# Altium footprint library LFCSP48.PcbLib: 1 footprints
Each footprint in its own frame and in the unit in brackets; x right, y up, seen from the top. Pads: shape width x height; smd on the part's side, far side on the other; paste and mask are expansions set on the pad; w line width, h text height; cw(c..) or ccw(c..) is an arc to the next point about the centre after c.
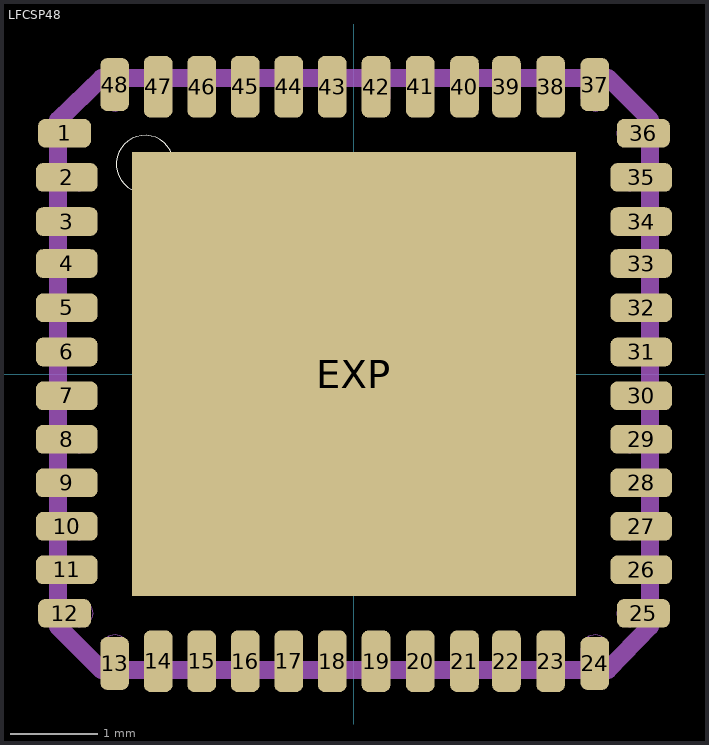
[diagram p0: the footprint, top view; thin cyan lines are the x and y axes]

## LFCSP48 [mil]
pads (49):
  rrect50% 24x13 smd: 1(-130.91,109) 12(-130.91,-108.27) 25(131,-108.27) 36(131,109)
  rrect50% 28x13 smd: 2(-129.92,89) 3(-129.92,69) 4(-129.92,50) 5(-129.92,30) 6(-129.92,10) 7(-129.92,-9.84) 8(-129.92,-29.53) 9(-129.92,-49.21) 10(-129.92,-68.9) 11(-129.92,-88.58) 26(130,-88.58) 27(130,-68.9) 28(130,-49.21) 29(130,-29.53) 30(130,-9.84) 31(130,10) 32(130,30) 33(130,50) 34(130,69) 35(130,89)
  rrect50% 13x24 smd: 13(-108.27,-130.91) 24(109,-130.91) 37(109,131) 48(-108.27,131)
  rrect50% 13x28 smd: 14(-88.58,-129.92) 15(-68.9,-129.92) 16(-49.21,-129.92) 17(-29.53,-129.92) 18(-9.84,-129.92) 19(10,-129.92) 20(30,-129.92) 21(50,-129.92) 22(69,-129.92) 23(89,-129.92) 38(89,130) 39(69,130) 40(50,130) 41(30,130) 42(10,130) 43(-9.84,130) 44(-29.53,130) 45(-49.21,130) 46(-68.9,130) 47(-88.58,130)
  rect 201x201 smd: EXP(0,0)
Top Overlay:
  circle w0: c-94.49,95 r13
Top Paste:
  rectangle: -98.43,-98.43 99,99
  lines w12: -137.8,-88.58 -122.05,-88.58 ; -137.8,-68.9 -122.05,-68.9 ; -137.8,-49.21 -122.05,-49.21 ; -137.8,-29.53 -122.05,-29.53 ; -137.8,-9.84 -122.05,-9.84 ; -137.8,10 -122.05,10 ; -137.8,30 -122.05,30 ; -137.8,50 -122.05,50 ; -137.8,69 -122.05,69 ; -137.8,89 -122.05,89 ; -136.81,-108.27 -125,-108.27 ; -136.81,109 -125,109 ; -108.27,-136.81 -108.27,-125 ; -108.27,125 -108.27,137 ; -88.58,-137.8 -88.58,-122.05 ; -88.58,123 -88.58,138 ; -68.9,-137.8 -68.9,-122.05 ; -68.9,123 -68.9,138 ; -49.21,-137.8 -49.21,-122.05 ; -49.21,123 -49.21,138 ; -29.53,-137.8 -29.53,-122.05 ; -29.53,123 -29.53,138 ; -9.84,-137.8 -9.84,-122.05 ; -9.84,123 -9.84,138 ; 10,-137.8 10,-122.05 ; 10,123 10,138 ; 30,-137.8 30,-122.05 ; 30,123 30,138 ; 50,-137.8 50,-122.05 ; 50,123 50,138 ; 69,-137.8 69,-122.05 ; 69,123 69,138 ; 89,-137.8 89,-122.05 ; 89,123 89,138 ; 109,-136.81 109,-125 ; 109,125 109,137 ; 123,-88.58 138,-88.58 ; 123,-68.9 138,-68.9 ; 123,-49.21 138,-49.21 ; 123,-29.53 138,-29.53 ; 123,-9.84 138,-9.84 ; 123,10 138,10 ; 123,30 138,30 ; 123,50 138,50 ; 123,69 138,69 ; 123,89 138,89 ; 125,-108.27 137,-108.27 ; 125,109 137,109
Top Solder:
  rectangle: -102.36,-102.36 103,103
  lines w16: -137.8,-88.58 -122.05,-88.58 ; -137.8,-68.9 -122.05,-68.9 ; -137.8,-49.21 -122.05,-49.21 ; -137.8,-29.53 -122.05,-29.53 ; -137.8,-9.84 -122.05,-9.84 ; -137.8,10 -122.05,10 ; -137.8,30 -122.05,30 ; -137.8,50 -122.05,50 ; -137.8,69 -122.05,69 ; -137.8,89 -122.05,89 ; -136.81,-108.27 -125,-108.27 ; -136.81,109 -125,109 ; -108.27,-136.81 -108.27,-125 ; -108.27,125 -108.27,137 ; -88.58,-137.8 -88.58,-122.05 ; -88.58,123 -88.58,138 ; -68.9,-137.8 -68.9,-122.05 ; -68.9,123 -68.9,138 ; -49.21,-137.8 -49.21,-122.05 ; -49.21,123 -49.21,138 ; -29.53,-137.8 -29.53,-122.05 ; -29.53,123 -29.53,138 ; -9.84,-137.8 -9.84,-122.05 ; -9.84,123 -9.84,138 ; 10,-137.8 10,-122.05 ; 10,123 10,138 ; 30,-137.8 30,-122.05 ; 30,123 30,138 ; 50,-137.8 50,-122.05 ; 50,123 50,138 ; 69,-137.8 69,-122.05 ; 69,123 69,138 ; 89,-137.8 89,-122.05 ; 89,123 89,138 ; 109,-136.81 109,-125 ; 109,125 109,137 ; 123,-88.58 138,-88.58 ; 123,-68.9 138,-68.9 ; 123,-49.21 138,-49.21 ; 123,-29.53 138,-29.53 ; 123,-9.84 138,-9.84 ; 123,10 138,10 ; 123,30 138,30 ; 123,50 138,50 ; 123,69 138,69 ; 123,89 138,89 ; 125,-108.27 137,-108.27 ; 125,109 137,109
Mechanical 2:
  text "ADV7125" at 93,13 h37.2
Mechanical 16:
  circle w0: c-124.02,109 r5
  circle w0: c-124.02,89 r6
  circle w0: c-124.02,69 r6
  circle w0: c-124.02,50 r6
  circle w0: c-124.02,30 r6
  circle w0: c-124.02,10 r6
  circle w0: c-124.02,-9.84 r6
  circle w0: c-124.02,-29.53 r6
  circle w0: c-124.02,-49.21 r6
  circle w0: c-124.02,-68.9 r6
  circle w0: c-124.02,-88.58 r6
  circle w0: c-124.02,-108.27 r6
  circle w0: c-108.27,-124.02 r6
  circle w0: c-88.58,-124.02 r6
  circle w0: c-68.9,-124.02 r6
  circle w0: c-49.21,-124.02 r6
  circle w0: c-29.53,-124.02 r6
  circle w0: c-9.84,-124.02 r6
  circle w0: c10,-124.02 r6
  circle w0: c30,-124.02 r6
  circle w0: c50,-124.02 r6
  circle w0: c69,-124.02 r6
  circle w0: c89,-124.02 r6
  circle w0: c109,-124.02 r6
  circle w0: c125,-108.27 r6
  circle w0: c125,-88.58 r6
  circle w0: c125,-68.9 r6
  circle w0: c125,-49.21 r6
  circle w0: c125,-29.53 r6
  circle w0: c125,-9.84 r6
  circle w0: c125,10 r6
  circle w0: c125,30 r6
  circle w0: c125,50 r6
  circle w0: c125,69 r6
  circle w0: c125,89 r6
  circle w0: c125,109 r6
  circle w0: c109,125 r6
  circle w0: c89,125 r6
  circle w0: c69,125 r6
  circle w0: c50,125 r6
  circle w0: c30,125 r6
  circle w0: c10,125 r6
  circle w0: c-9.84,125 r6
  circle w0: c-29.53,125 r6
  circle w0: c-49.21,125 r6
  circle w0: c-68.9,125 r6
  circle w0: c-88.58,125 r6
  circle w0: c-108.27,125 r6
  rectangle: -136.81,103 -124.02,115
  rectangle: -136.81,83 -124.02,95
  rectangle: -136.81,63 -124.02,75
  rectangle: -136.81,44 -124.02,56
  rectangle: -136.81,24 -124.02,36
  rectangle: -136.81,4 -124.02,16
  rectangle: -136.81,-15.75 -124.02,-3.94
  rectangle: -136.81,-35.43 -124.02,-23.62
  rectangle: -136.81,-55.12 -124.02,-43.31
  rectangle: -136.81,-74.8 -124.02,-62.99
  rectangle: -136.81,-94.49 -124.02,-82.68
  rectangle: -136.81,-114.17 -124.02,-102.36
  region: -102.36,-136.81 -102.36,-124.02 -114.17,-124.02 -114.17,-136.81
  region: -82.68,-136.81 -82.68,-124.02 -94.49,-124.02 -94.49,-136.81
  region: -62.99,-136.81 -62.99,-124.02 -74.8,-124.02 -74.8,-136.81
  region: -43.31,-136.81 -43.31,-124.02 -55.12,-124.02 -55.12,-136.81
  region: -23.62,-136.81 -23.62,-124.02 -35.43,-124.02 -35.43,-136.81
  region: -3.94,-136.81 -3.94,-124.02 -15.75,-124.02 -15.75,-136.81
  region: 16.41,-136.91 16.41,-123.91 4.59,-123.91 4.59,-136.91
  region: 35.91,-136.41 35.91,-124.41 24.09,-124.41 24.09,-136.41
  region: 55.41,-136.91 55.41,-123.91 43.59,-123.91 43.59,-136.91
  region: 75.41,-136.91 75.41,-123.91 63.59,-123.91 63.59,-136.91
  region: 94.91,-136.41 94.91,-124.41 83.09,-124.41 83.09,-136.41
  region: 114.41,-136.91 114.41,-123.91 102.59,-123.91 102.59,-136.91
  region: 137,-102.36 125,-102.36 125,-114.17 137,-114.17
  region: 137,-82.68 125,-82.68 125,-94.49 137,-94.49
  region: 137,-62.99 125,-62.99 125,-74.8 137,-74.8
  region: 137,-43.31 125,-43.31 125,-55.12 137,-55.12
  region: 137,-23.62 125,-23.62 125,-35.43 137,-35.43
  region: 137,-3.94 125,-3.94 125,-15.75 137,-15.75
  region: 137,16 125,16 125,4 137,4
  region: 137,36 125,36 125,24 137,24
  region: 137,56 125,56 125,44 137,44
  region: 137,75 125,75 125,63 137,63
  region: 137,95 125,95 125,83 137,83
  region: 137,115 125,115 125,103 137,103
  region: 102.5,137.5 102.5,124.5 114.5,124.5 114.5,137.5
  region: 83,137 83,125 95,125 95,137
  region: 63.5,137.5 63.5,124.5 75.5,124.5 75.5,137.5
  region: 43.5,137.5 43.5,124.5 55.5,124.5 55.5,137.5
  region: 24,137 24,125 36,125 36,137
  region: 4.5,137.5 4.5,124.5 16.5,124.5 16.5,137.5
  region: -15.84,137.4 -15.84,124.6 -3.84,124.6 -3.84,137.4
  region: -35.53,137.4 -35.53,124.6 -23.53,124.6 -23.53,137.4
  region: -55.21,137.4 -55.21,124.6 -43.21,124.6 -43.21,137.4
  region: -74.9,137.4 -74.9,124.6 -62.9,124.6 -62.9,137.4
  region: -94.58,137.4 -94.58,124.6 -82.58,124.6 -82.58,137.4
  region: -114.27,137.4 -114.27,124.6 -102.27,124.6 -102.27,137.4
  lines w8: -133.86,-114.17 -114.17,-133.86 115,-133.86 134,-114.17 134,115 115,134 -114.17,134 -133.86,115 -133.86,-114.17